# EAGLE library part LED_RGB_DS (library AniBike_Common_Library)
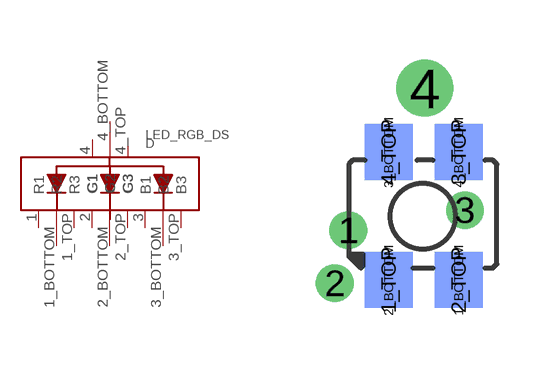
[diagram p9: symbol with the pads of LED1210_DS; footprint LED1210_DS]

Designator prefix D

## LED_RGB_DS  [LED1210_DS]
1  R1
1_BOTTOM  R2
1_TOP  R3
2  G1
2_BOTTOM  G2
2_TOP  G3
3  B1
3_BOTTOM  B2
3_TOP  B3
4  C1
4_BOTTOM  C2
4_TOP  C3

## Footprint LED1210_DS (pad centres in mm)
Double sided LED. It contains led pads from both sides of the PCB. The TH pads are used as pads or vias. The pads numberred "4" are the highest current graded.
drill 0.432 pad 0.889 round: 1 -1.913,-0.353; 2 -2.25,-1.68; 3 1,0.15
smd 1.2 x 1.4 bottom: 1_BOTTOM 0.85,-1.6; 2_BOTTOM -0.9,-1.6; 3_BOTTOM -0.9,1.6; 4_BOTTOM 0.85,1.6
smd 1.2 x 1.4: 1_TOP -0.9,-1.6; 2_TOP 0.85,-1.6; 3_TOP 0.85,1.6; 4_TOP -0.9,1.6
drill 0.762 pad 1.422 round: 4 0,3.2